# Altium schematic symbol library LT8618EDDB#TRPBF.SchLib: 1 symbol
Pins are listed as number, name and electrical type; pins without a type are passive.

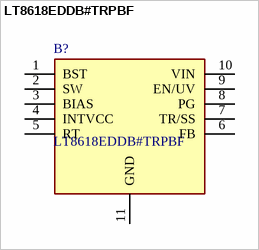
[diagram p0: symbol LT8618EDDB#TRPBF]

## LT8618EDDB#TRPBF
designator B?
Switching Voltage Regulators High Efficiency 60V/100mA Synchronous Bu; Manufacturer_Name: Analog Devices; Geometry.Height: 0.8mm; Mouser Part Number: 584-LT8618EDDB#TRPBF; Mouser Price/Stock: https://www.mouser.co.uk/ProductDetail/Analog-Devices/LT8618EDDBTRPBF?qs=hWgE7mdIu5Ro6jCGwTYWww%3D%3D; Manufacturer_Part_Number: LT8618EDDB#TRPBF; Datasheet Link: https://www.mouser.ch/datasheet/2/609/lt8618_8618_3_3-1893268.pdf
footprint SON50P200X300X80-11N-D
pins: 1 BST, 2 SW, 3 BIAS, 4 INTVCC, 5 RT, 6 FB, 7 TR/SS, 8 PG, 9 EN/UV, 10 VIN, 11 GND